# Altium footprint library AOTAB201610S3R3101T.PcbLib: 1 footprints
Each footprint in its own frame and in the unit in brackets; x right, y up, seen from the top. Pads: shape width x height; smd on the part's side, far side on the other; paste and mask are expansions set on the pad; w line width, h text height; cw(c..) or ccw(c..) is an arc to the next point about the centre after c.
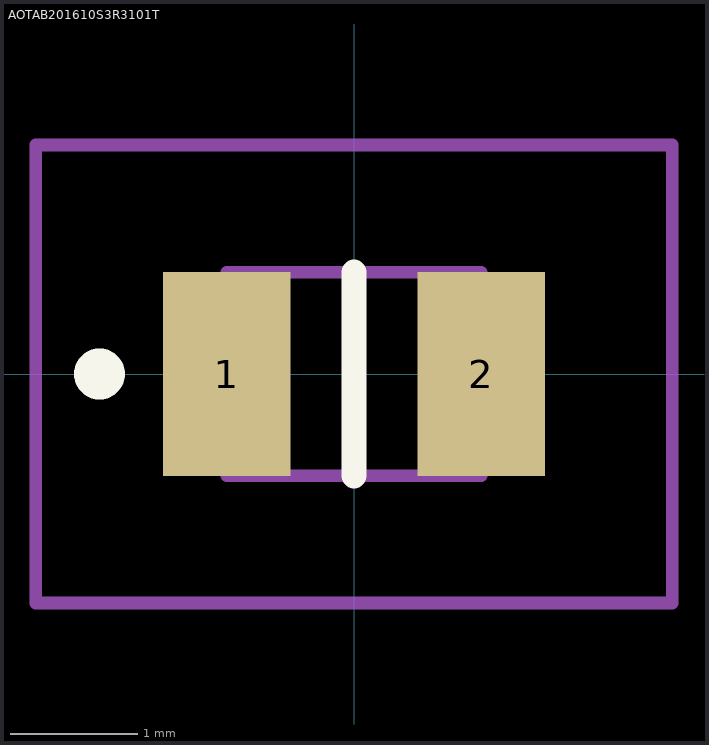
[diagram p0: the footprint, top view; thin cyan lines are the x and y axes]

## AOTAB201610S3R3101T [mm]
pads (2):
  rect 1x1.6 smd: 1(-1,0) 2(1,0)
Top Overlay:
  lines w0.2: 0,-0.8 0,0.8 ; -2,-0.1 cw(c-2,0) -2,0.1 ; -2,-0.1 -2,-0.1 ; -2,-0.1 ccw(c-2,0) -2,0.1 ; -2,0.1 -2,0.1
Mechanical 15:
  lines w0.1: -1,-0.8 1,-0.8 1,0.8 -1,0.8 -1,-0.8
Mechanical 20:
  lines w0.1: -2.5,-1.8 2.5,-1.8 2.5,1.8 -2.5,1.8 -2.5,-1.8